# EAGLE library part TPA3116D2 (library faun)
The TPA31xxD2 series are stereo efficient, digital amplifier power stage for driving speakers up to 100W/2Ω in mono. The high efficiency of the TPA3130D2 allows it to do 2x15W without external heat sink on a single layer PCB. The TPA3118D2 can even run 2x30W/8Ω without heat sink on a dual layer PCB. If even higher power is needed the TPA3116D2 does 2x50W/4Ω with a small heat-sink attached to its top side PowerPad. All three devices share the same footprint enabling a single PCB to be used across different power levels.
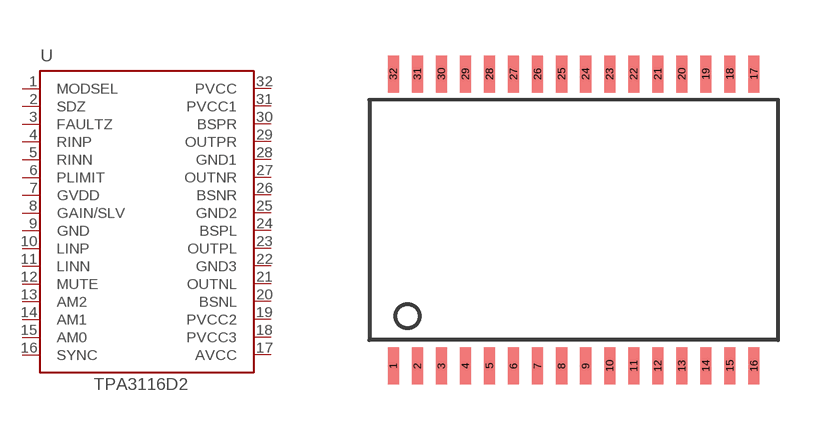
[diagram p0: symbol with the pads of TPA3116D2; footprint TPA3116D2]

Designator prefix U

## TPA3116D2  [TPA3116D2]
1  MODSEL  in
2  SDZ  in
3  FAULTZ  in
4  RINP  in
5  RINN  in
6  PLIMIT  in
7  GVDD  in
8  GAIN/SLV  in
9  GND  in
10  LINP  in
11  LINN  in
12  MUTE  in
13  AM2  in
14  AM1  in
15  AM0  in
16  SYNC  in
17  AVCC  in
18  PVCC3  in
19  PVCC2  in
20  BSNL  in
21  OUTNL  in
22  GND3  in
23  OUTPL  in
24  BSPL  in
25  GND2  in
26  BSNR  in
27  OUTNR  in
28  GND1  in
29  OUTPR  in
30  BSPR  in
31  PVCC1  in
32  PVCC  in

## Footprint TPA3116D2 (pad centres in mm)
smd 0.3 x 1: 1 -6.5,-3.95; 2 -5.85,-3.95; 3 -5.2,-3.95; 4 -4.55,-3.95; 5 -3.9,-3.95; 6 -3.25,-3.95; 7 -2.6,-3.95; 8 -1.95,-3.95; 9 -1.3,-3.95; 10 -0.65,-3.95; 11 0,-3.95; 12 0.65,-3.95; 13 1.3,-3.95; 14 1.95,-3.95; 15 2.6,-3.95; 16 3.25,-3.95; 17 3.25,3.95; 18 2.6,3.95; 19 1.95,3.95; 20 1.3,3.95; 21 0.65,3.95; 22 0,3.95; 23 -0.65,3.95; 24 -1.3,3.95; 25 -1.95,3.95; 26 -2.6,3.95; 27 -3.25,3.95; 28 -3.9,3.95; 29 -4.55,3.95; 30 -5.2,3.95; 31 -5.85,3.95; 32 -6.5,3.95